# EAGLE library part TPS612XX (library Rohit_Libs)
TPS612XX Integrated Switch Low Voltage Boost Convertor Part by : Rohit Gupta Datasheet <http://www.ti.com/lit/ds/symlink/tps61220.pdf>
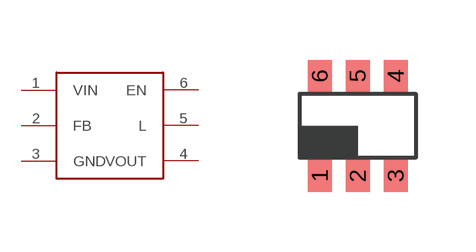
[diagram p0: symbol with the pads of TSOT23-6_DDC; footprint TSOT23-6_DDC]

Designator prefix -

## TPS612XX  [TSOT23-6_DDC]
1  VIN  pas
2  FB  pas
3  GND  pas
4  VOUT  pas
5  L  pas
6  EN  pas

## Footprint TSOT23-6_DDC (pad centres in mm)
DDC (R-PDSO-G6) PLASTIC SMALL OUTLINE PACKAGE Source: http://focus.ti.com/lit/ds/symlink/tps61070.pdf
smd 0.6 x 0.8: 1 -0.95,-1.25; 2 0,-1.25; 3 0.95,-1.25; 4 0.95,1.25; 5 0,1.25; 6 -0.95,1.25